# Altium footprint library HR911105A.PcbLib: 1 footprints
Each footprint in its own frame and in the unit in brackets; x right, y up, seen from the top. Pads: shape width x height; smd on the part's side, far side on the other; paste and mask are expansions set on the pad; w line width, h text height; cw(c..) or ccw(c..) is an arc to the next point about the centre after c.
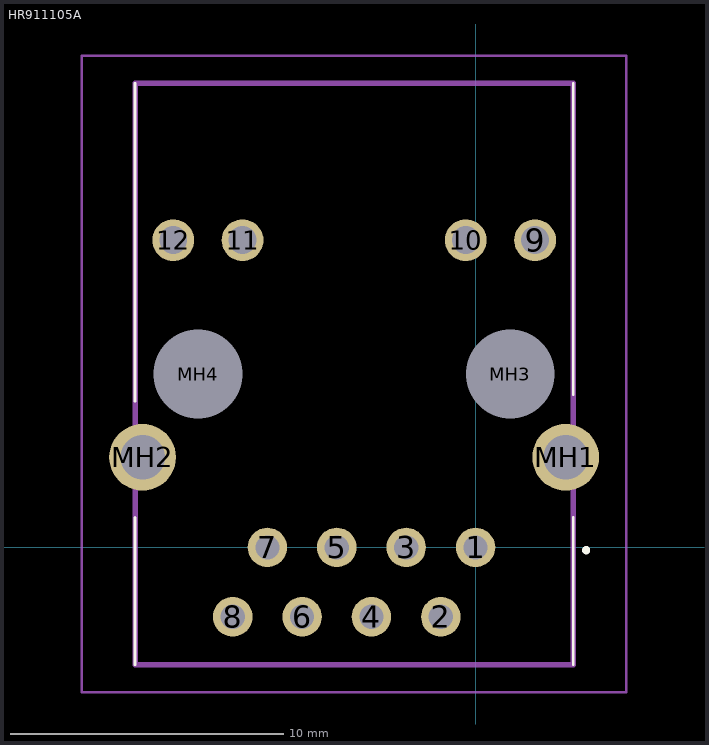
[diagram p0: the footprint, top view; thin cyan lines are the x and y axes]

## HR911105A [mm]
pads (16):
  round 1.446 hole 0.89: 1(0,0) 2(-1.27,-2.54) 3(-2.54,0) 4(-3.81,-2.54) 5(-5.08,0) 6(-6.35,-2.54) 7(-7.62,0) 8(-8.89,-2.54)
  round 1.53 hole 1.02: 9(2.18,11.25) 10(-0.36,11.25) 11(-8.53,11.25) 12(-11.07,11.25)
  round 2.445 hole 1.63: MH1(3.3,3.3) MH2(-12.19,3.3)
  round 1.625 hole 3.25 unplated: MH3(1.27,6.35) MH4(-10.16,6.35)
Top Overlay:
  lines w0.1: -12.465,-4.3 -12.465,1.1 -12.465,-4.3 ; -12.465,5.35 -12.465,17 -12.465,5.35 ; 3.575,-4.3 3.575,1.1 3.575,-4.3 ; 3.575,5.6 3.575,17 3.575,5.6
  lines w0.2: 4.05,-0.15 ccw(c4.05,-0.1) 4.05,-0.05 ; 4.05,-0.15 cw(c4.05,-0.1) 4.05,-0.05 ; 4.05,-0.15 ccw(c4.05,-0.1) 4.05,-0.05
Mechanical 13:
  lines w0.2: -12.465,-4.3 3.575,-4.3 3.575,17 -12.465,17 -12.465,-4.3
Mechanical 15:
  lines w0.1: -14.417,-5.3 5.518,-5.3 5.518,18 -14.417,18 -14.417,-5.3
3D body "HR911105A.stp": height 13.53, standoff -2.97, extent -12.39,-4.08 3.49,17.32